# EAGLE library part TPS63000DRCR (library sps)
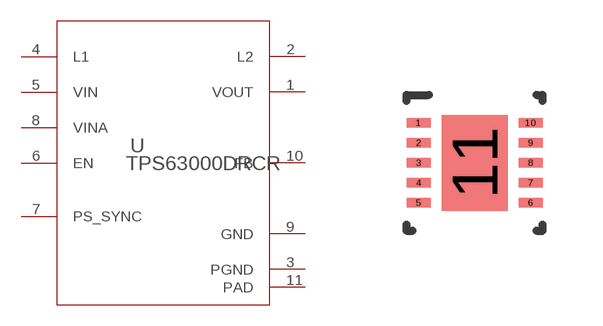
[diagram p0: symbol with the pads of DRC0010J; footprint DRC0010J]

Designator prefix U

## TPS63000DRCR  [DRC0010J]
1  VOUT  pwr
2  L2  pas
3  PGND  pwr
4  L1  pas
5  VIN  pwr
6  EN  in
7  PS_SYNC  in
8  VINA  pwr
9  GND  pwr
10  FB  in
11  PAD  pwr

## Footprint DRC0010J (pad centres in mm)
smd 0.6 x 0.24: 1 -1.4,1; 2 -1.4,0.5; 3 -1.4,0; 4 -1.4,-0.5; 5 -1.4,-1; 6 1.4,-1; 7 1.4,-0.5; 8 1.4,0; 9 1.4,0.5; 10 1.4,1
smd 1.65 x 2.4: 11 0,0